# Altium schematic symbol library Linx_CONSMA002_SMD.SchLib: 1 symbol
Pins are listed as number, name and electrical type; pins without a type are passive.

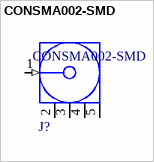
[diagram p0: symbol CONSMA002-SMD]

## CONSMA002-SMD
designator J?
SMA Female Right Angle Surface Mount Connector; PackageVersion: revB, Oct-2010; PackageReference: CON-SMA-SMD-RA; PackageDescription: SMA Female Right Angle, Surface Mount Connector, 7 x 7 mm Body; DatasheetVersion: revB, Oct-2010; PartNumber: CONSMA002-SMD
footprint CON-SMA-SMD-RA
pins: 1 Signal (in) "Signal Pin", 2 GND (power), 3 GND (power), 4 GND (power), 5 GND (power)